# Altium schematic symbol library IC-Nexperia.SchLib: 5 symbols
Pins are listed as number, name and electrical type; pins without a type are passive.

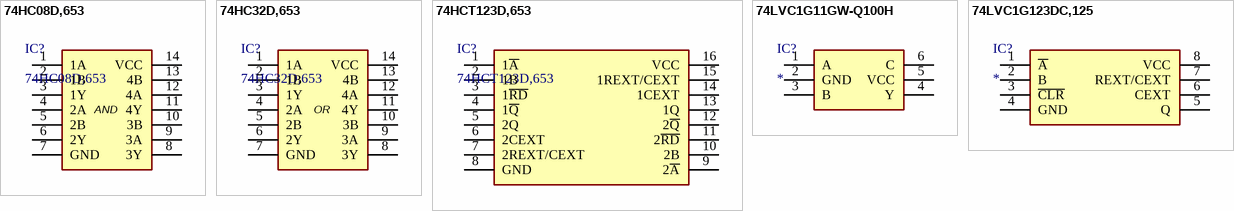
[diagram p0: symbols 74HC08D,653 to 74LVC1G123DC,125]

## 74HC08D,653
designator IC?
逻辑门 与门  4通道 2路输入; Manufacturer_Name: Nexperia; Manufacturer_Part_Number: 74HC08D,653; LCSC: *
footprint SOIC-14
pins: 1 1A, 2 1B, 3 1Y, 4 2A, 5 2B, 6 2Y, 7 GND, 8 3Y, 9 3A, 10 3B, 11 4Y, 12 4A, 13 4B, 14 VCC
text: AND

## 74HC32D,653
designator IC?
逻辑门 或门 4通道 2路输入; Manufacturer_Name: Nexperia; Manufacturer_Part_Number: 74HC32D,653; LCSC: *
footprint SOIC-14
pins: 1 1A, 2 1B, 3 1Y, 4 2A, 5 2B, 6 2Y, 7 GND, 8 3Y, 9 3A, 10 3B, 11 4Y, 12 4A, 13 4B, 14 VCC
text: OR

## 74HCT123D,653
designator IC?
单稳态多谐振荡器 双路可复位; Manufacturer_Name: Nexperia; Manufacturer_Part_Number: 74HCT123D,653; LCSC: *
footprint SOIC-16
pins: 1 1~{A}, 2 1B, 3 1~{RD}, 4 1~{Q}, 5 2Q, 6 2CEXT, 7 2REXT/CEXT, 8 GND, 9 2~{A}, 10 2B, 11 2~{RD}, 12 2~{Q}, 13 1Q, 14 1CEXT, 15 1REXT/CEXT, 16 VCC

## 74LVC1G11GW-Q100H
designator IC?
逻辑门 与门 单通道 3路输入; Manufacturer_Name: Nexperia; Manufacturer_Part_Number: 74LVC1G11GW-Q100H; LCSC: C548242
footprint TSSOP-6 (Nexperia(安世) TSSOP-6)
pins: 1 A, 2 GND, 3 B, 4 Y, 5 VCC, 6 C

## 74LVC1G123DC,125
designator IC?
单稳态多谐振荡器 单路可复位; Manufacturer_Name: Nexperia; Manufacturer_Part_Number: 74LVC1G123DC,125; LCSC: C77273
footprint VSSOP-8-0.5mm (Nexperia(安世) VSSOP-8-0.5mm)
pins: 1 ~{A}, 2 B, 3 ~{CLR}, 4 GND, 5 Q, 6 CEXT, 7 REXT/CEXT, 8 VCC